# Altium schematic symbol library SCH - MCU - STM32 - ST MICROELECTRONICS STM32F070F6PX TSSOP20.SchLib: 1 symbol
Pins are listed as number, name and electrical type; pins without a type are passive.

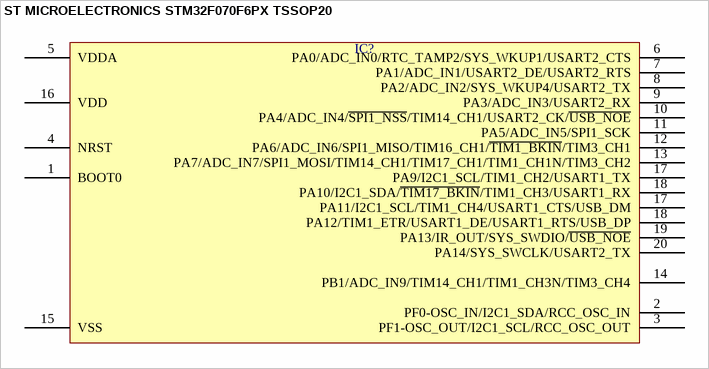
[diagram p0: symbol ST MICROELECTRONICS STM32F070F6PX TSSOP20]

## ST MICROELECTRONICS STM32F070F6PX TSSOP20
designator IC?  (value not drawn)
pins: 1 BOOT0, 2 PF0-OSC_IN/I2C1_SDA/RCC_OSC_IN, 3 PF1-OSC_OUT/I2C1_SCL/RCC_OSC_OUT, 4 NRST, 5 VDDA, 6 PA0/ADC_IN0/RTC_TAMP2/SYS_WKUP1/USART2_CTS, 7 PA1/ADC_IN1/USART2_DE/USART2_RTS, 8 PA2/ADC_IN2/SYS_WKUP4/USART2_TX, 9 PA3/ADC_IN3/USART2_RX, 10 PA4/ADC_IN4/~{SPI1_NSS}/TIM14_CH1/USART2_CK/~{USB_NOE}, 11 PA5/ADC_IN5/SPI1_SCK, 12 PA6/ADC_IN6/SPI1_MISO/TIM16_CH1/~{TIM1_BKIN}/TIM3_CH1, 13 PA7/ADC_IN7/SPI1_MOSI/TIM14_CH1/TIM17_CH1/TIM1_CH1N/TIM3_CH2, 14 PB1/ADC_IN9/TIM14_CH1/TIM1_CH3N/TIM3_CH4, 15 VSS, 16 VDD, 17 PA9/I2C1_SCL/TIM1_CH2/USART1_TX, 17 PA11/I2C1_SCL/TIM1_CH4/USART1_CTS/USB_DM, 18 PA10/I2C1_SDA/~{TIM17_BKIN}/TIM1_CH3/USART1_RX, 18 PA12/TIM1_ETR/USART1_DE/USART1_RTS/USB_DP, 19 PA13/IR_OUT/SYS_SWDIO/~{USB_NOE}, 20 PA14/SYS_SWCLK/USART2_TX